# EAGLE library part 7SEG (library _diode)
Single Digit Seven-Segment Display (cathode common) Source: LITEON .. S4301B.pdf
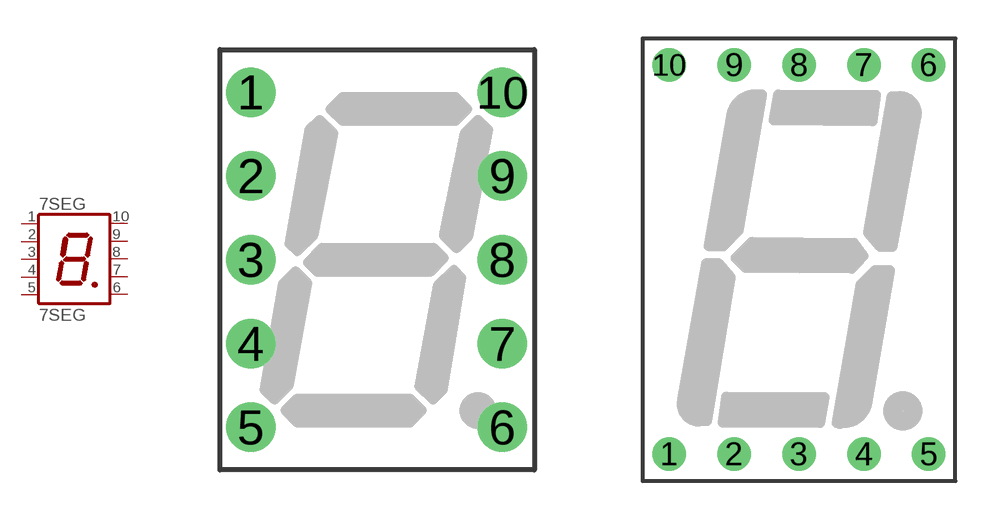
[diagram p0: symbol with the pads of 7SEG-S; footprints 7SEG-S, 7SEG-L]

Designator prefix 7SEG

## 7SEGS (OC_FARNELL: unknown; OC_NEWARK: unknown)  [7SEG-S]
1  1  pas
2  2  pas
3  3  pas
4  4  pas
5  5  pas
6  6  pas
7  7  pas
8  8  pas
9  9  pas
10  10  pas

## 7SEGL  [7SEG-L]
Pads as for 7SEG-S

## Footprint 7SEG-S (pad centres in mm)
Single Digit LED Numeric Display Source: LITEON .. S4301B.pdf
drill 0.9 pad 1.5: 1 -3.81,5.08; 2 -3.81,2.54; 3 -3.81,0; 4 -3.81,-2.54; 5 -3.81,-5.08; 6 3.81,-5.08; 7 3.81,-2.54; 8 3.81,0; 9 3.81,2.54; 10 3.81,5.08

## Footprint 7SEG-L (pad centres in mm)
13.2mm (0.52INCH) SINGLE DIGIT NUMERIC DISPLAY Source: http://www.kingbright.com/manager/upload/pdf/SA52-11EWA(Ver1195708215.10)
drill 0.8: 1 -5.08,-7.62; 2 -2.54,-7.62; 3 0,-7.62; 4 2.54,-7.62; 5 5.08,-7.62; 6 5.08,7.62; 7 2.54,7.62; 8 0,7.62; 9 -2.54,7.62; 10 -5.08,7.62